# EAGLE library part MOLEX-HDMI_HDMI (library pixhawk2)
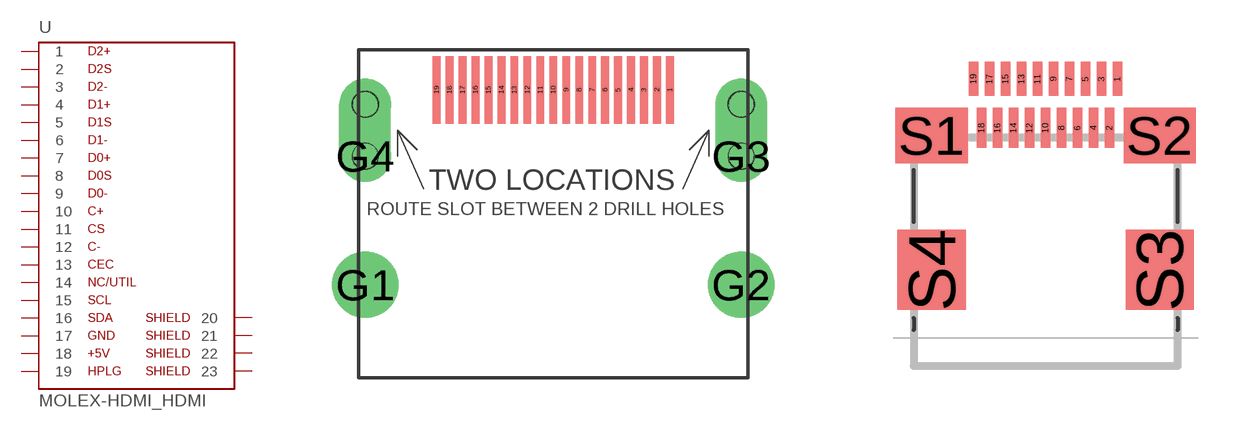
[diagram p65: symbol with the pads of MOLEX-HDMI_47151-001; footprints MOLEX-HDMI_47151-001, MOLEX-HDMI-46765-0001]

Designator prefix -

## MOLEX-HDMI_HDMI_FULLSIZE  [MOLEX-HDMI_47151-001]
1  1  pas
2  2  pas
3  3  pas
4  4  pas
5  5  pas
6  6  pas
7  7  pas
8  8  pas
9  9  pas
10  10  pas
11  11  pas
12  12  pas
13  13  pas
14  14  pas
15  15  pas
16  16  pas
17  17  pas
18  18  pas
19  19  pas
G1  20  pas
G2  21  pas
G3  22  pas
G4  23  pas

## MOLEX-HDMI_HDMI_MICRO  [MOLEX-HDMI-46765-0001]
1  19  pas
2  14  pas
3  1  pas
4  2  pas
5  3  pas
6  4  pas
7  5  pas
8  6  pas
9  7  pas
10  8  pas
11  9  pas
12  10  pas
13  11  pas
14  12  pas
15  13  pas
16  17  pas
17  15  pas
18  16  pas
19  18  pas
S1  20  pas
S2  21  pas
S3  22  pas
S4  23  pas

## Footprint MOLEX-HDMI_47151-001 (pad centres in mm)
smd 0.3 x 2.6: 1 4.5,1.56; 2 4,1.56; 3 3.5,1.56; 4 3,1.56; 5 2.5,1.56; 6 2,1.56; 7 1.5,1.56; 8 1,1.56; 9 0.5,1.56; 10 0,1.56; 11 -0.5,1.56; 12 -1,1.56; 13 -1.5,1.56; 14 -2,1.56; 15 -2.5,1.56; 16 -3,1.56; 17 -3.5,1.56; 18 -4,1.56; 19 -4.5,1.56
drill 1.7: G1 -7.25,-5.96; G2 7.25,-5.96
drill 1 pad 2 offset: G3 7.25,-1; G4 -7.25,-1
hole 1 at -7.25,1
hole 1 at 7.25,1

## Footprint MOLEX-HDMI-46765-0001 (pad centres in mm)
smd 0.23 x 0.85: 1 1.8,6.475; 3 1.4,6.475; 5 1,6.475; 7 0.6,6.475; 9 0.2,6.475; 11 -0.2,6.475; 13 -0.6,6.475; 15 -1,6.475; 17 -1.4,6.475; 19 -1.8,6.475
smd 0.23 x 1: 2 1.6,5.25; 4 1.2,5.25; 6 0.8,5.25; 8 0.4,5.25; 10 0,5.25; 12 -0.4,5.25; 14 -0.8,5.25; 16 -1.2,5.25; 18 -1.6,5.25
smd 1.8 x 1.38: S1 -2.85,5.06; S2 2.85,5.06
smd 1.7 x 2: S3 2.85,1.7; S4 -2.85,1.7